# Altium footprint library LFPAK-SO8.PcbLib: 2 footprints
Each footprint in its own frame and in the unit in brackets; x right, y up, seen from the top. Pads: shape width x height; smd on the part's side, far side on the other; paste and mask are expansions set on the pad; w line width, h text height; cw(c..) or ccw(c..) is an arc to the next point about the centre after c.
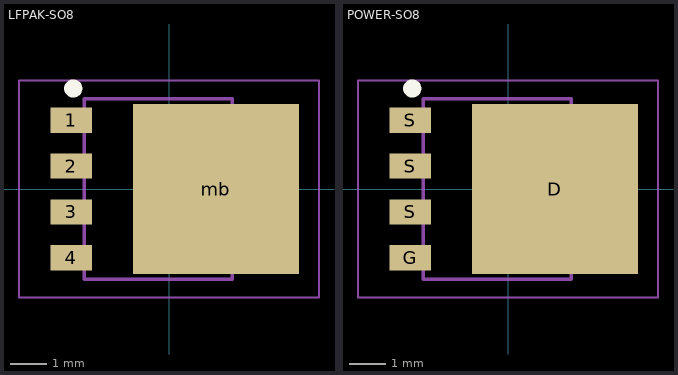
[diagram p0: the footprints below, top view; thin cyan lines are the x and y axes]

## LFPAK-SO8 [mm] "TO, 5-Pads, Body 5.15x5.86mm (max), IPC Low Density"
height 1.1
pads (5):
  rect 1.15x0.7 smd: 1(-2.7,1.905) 2(-2.7,0.635) 3(-2.7,-0.635) 4(-2.7,-1.905)
  rect 4.6x4.7 smd: mb(1.3,0)
Top Overlay:
  circle w0.25: c-2.65,2.78 r0.125
Mechanical 13:
  lines w0.1: -2.35,-2.5 1.75,-2.5 1.75,2.5 -2.35,2.5 -2.35,-2.5
Mechanical 15:
  lines w0.05: -4.15,-3 4.15,-3 4.15,3 -4.15,3 -4.15,-3
  lines w0.1: -0.5,0 0.5,0 ; 0,-0.5 0,0.5
3D body "LFPAK-SO8.step": height 1.25, standoff 0, extent -2.95,-2.5 3.05,2.5

## POWER-SO8 [mm]
height 1.1
pads (5):
  rect 4.6x4.7 smd: D(1.3,0)
  rect 1.15x0.7 smd: G(-2.7,-1.905) S(-2.7,-0.635) S(-2.7,0.635) S(-2.7,1.905)
Top Overlay:
  circle w0.25: c-2.65,2.78 r0.125
Mechanical 13:
  lines w0.1: -2.35,-2.5 -2.35,2.5 1.75,2.5 1.75,-2.5 -2.35,-2.5
Mechanical 15:
  lines w0.05: -4.15,-3 -4.15,3 4.15,3 4.15,-3 -4.15,-3
  lines w0.1: -0.5,0 0.5,0 ; 0,-0.5 0,0.5
3D body "LFPAK-SO8.step": height 1.25, standoff 0, extent -2.95,-2.5 3.05,2.5